# Altium schematic symbol library Resistors.SchLib: 6 symbols
Pins are listed as number, name and electrical type; pins without a type are passive.

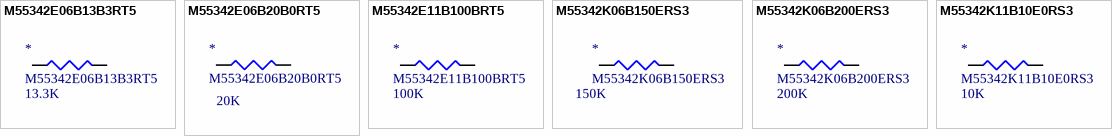
[diagram p0: symbols M55342E06B13B3RT5 to M55342K11B10E0RS3]

## M55342E06B13B3RT5
designator *  value 13.3K
13.3K
footprint *RESC2012X64N
pins: 1, 2

## M55342E06B20B0RT5
designator *  value 20K
20K
footprint *RESC2012X64N
pins: 1, 2

## M55342E11B100BRT5
designator *  value 100K
100K
footprint *RESC1005X84N
pins: 1, 2

## M55342K06B150ERS3
designator *  value 150K
150K
footprint *RESC2012X64N
pins: 1, 2

## M55342K06B200ERS3
designator *  value 200K
200K
footprint *RESC2012X64N
pins: 1, 2

## M55342K11B10E0RS3
designator *  value 10K
10K
footprint *RESC1005X84N
pins: 1, 2